# Altium footprint library Footprints.PcbLib: 33 footprints (part 2 of 3)
Each footprint in its own frame and in the unit in brackets; x right, y up, seen from the top. Pads: shape width x height; smd on the part's side, far side on the other; paste and mask are expansions set on the pad; w line width, h text height; cw(c..) or ccw(c..) is an arc to the next point about the centre after c.
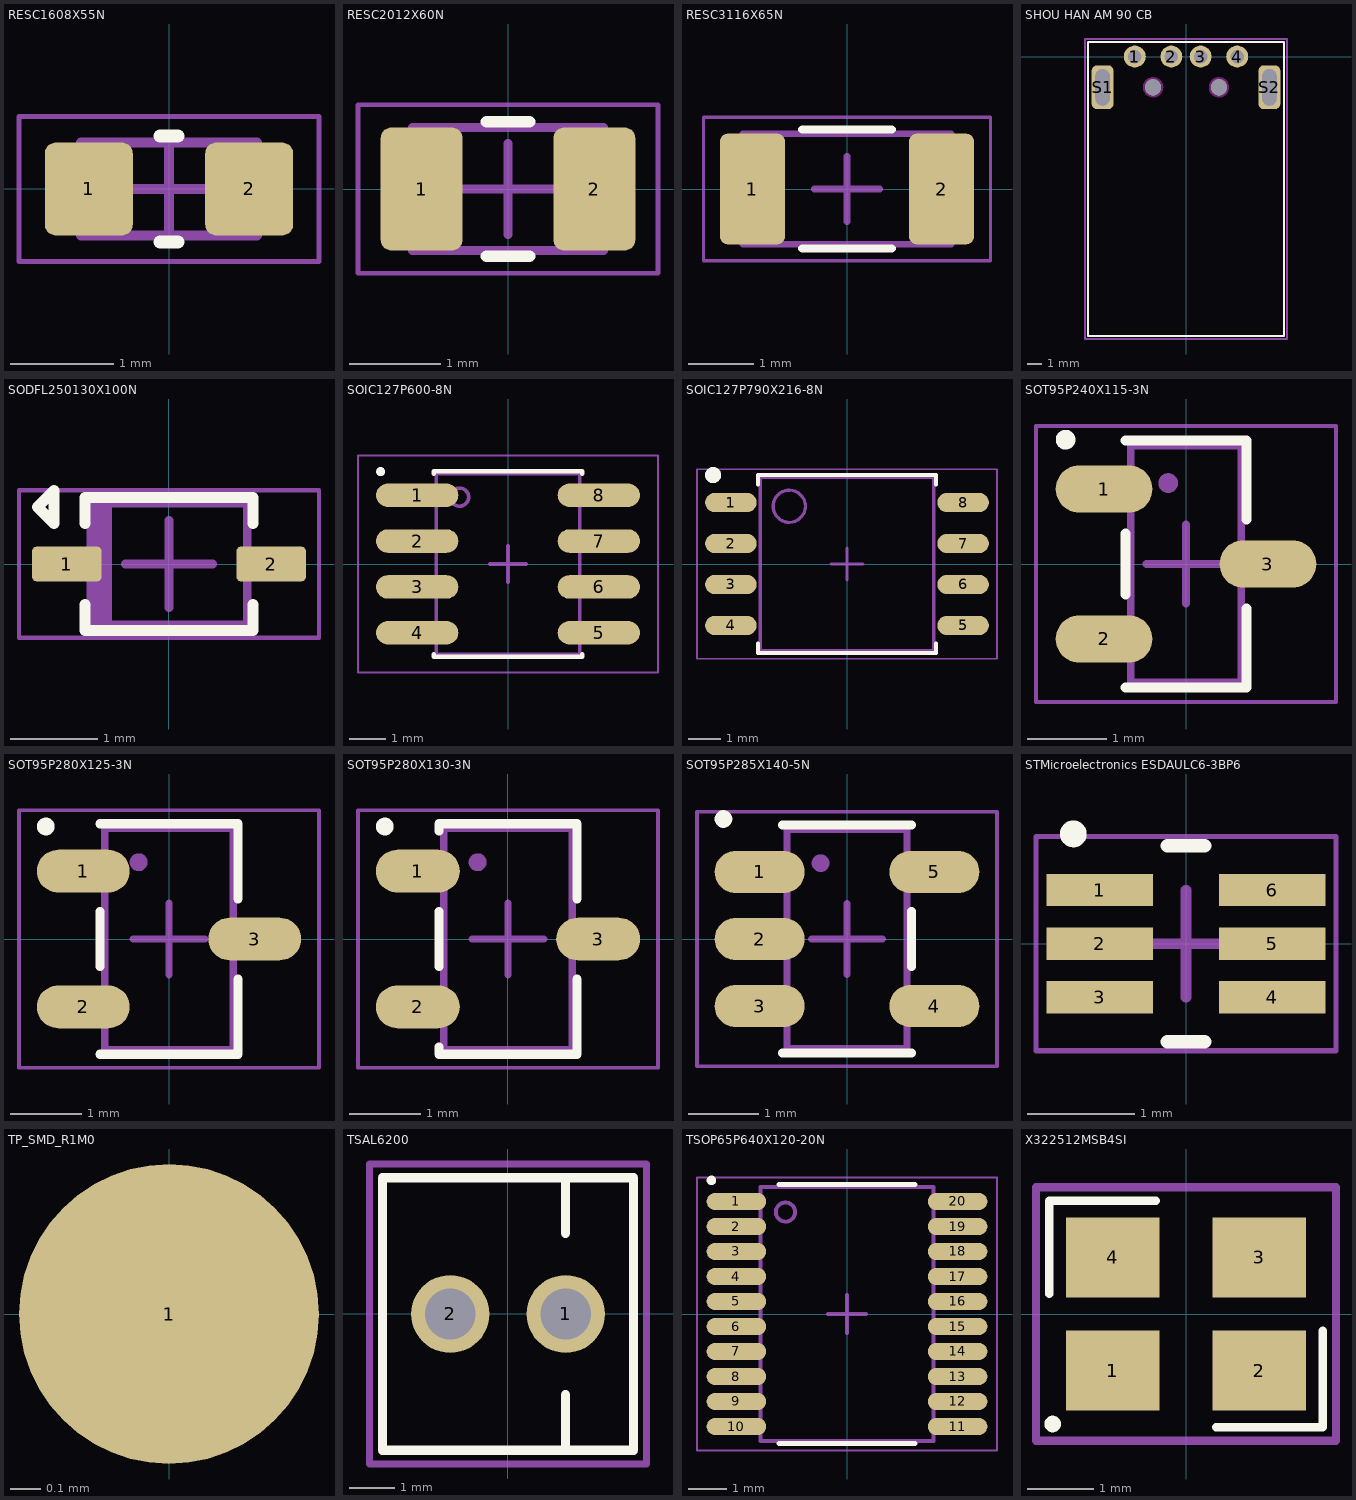
[diagram p1: the footprints below, top view; thin cyan lines are the x and y axes]

## RESC1608X55N [mm] "Chip Resistor, 2-Leads, Body 1.60x0.80mm, IPC Medium Density"
height 0.55
pads (2):
  rrect25% 0.85x0.9 smd: 1(-0.775,0) 2(0.775,0)
Top Overlay:
  lines w0.127: -0.086,-0.514 0.086,-0.514 ; -0.086,0.513 0.086,0.513
Top Assembly:
  lines w0.1: -0.85,-0.45 0.85,-0.45 0.85,0.45 -0.85,0.45 -0.85,-0.45
Top Designator:
  text ".Designator" at 0,0.188 h1
Top Courtyard:
  lines w0.05: -1.45,-0.7 1.45,-0.7 1.45,0.7 -1.45,0.7 -1.45,-0.7
Top Component Center:
  lines w0.1: -0.45,0 0.45,0 ; 0,-0.45 0,0.45
3D body: height 0.55, standoff 0, extent 0.5,-0.4 0.8,0.4
3D body: height 0.55, standoff 0, extent -0.8,-0.4 -0.5,0.4
3D body: height 0.55, standoff 0, extent -0.5,-0.4 0.5,0.4

## RESC2012X60N [mm] "Chip Resistor, 2-Leads, Body 2.00x1.25mm, IPC Medium Density"
height 0.6
pads (2):
  rrect25% 0.9x1.35 smd: 1(-0.95,0) 2(0.95,0)
Top Overlay:
  lines w0.127: -0.236,-0.738 0.236,-0.738 ; -0.236,0.738 0.236,0.738
Top Assembly:
  lines w0.1: -1.05,-0.675 -1.05,0.675 1.05,0.675 1.05,-0.675 -1.05,-0.675
Top Designator:
  text ".Designator" at 0,0.188 h1
Top Courtyard:
  lines w0.05: -1.65,-0.925 -1.65,0.925 1.65,0.925 1.65,-0.925 -1.65,-0.925
Top Component Center:
  lines w0.1: -0.5,0 0.5,0 ; 0,-0.5 0,0.5
3D body: height 0.6, standoff 0, extent -0.65,-0.625 0.65,0.625
3D body: height 0.6, standoff 0, extent -1,-0.625 -0.65,0.625
3D body: height 0.6, standoff 0, extent 0.65,-0.625 1,0.625

## RESC3116X65N [mm] "Chip Resistor, 2-Leads, Body 3.10x1.60mm, IPC Medium Density"
height 0.65
pads (2):
  rrect25% 1x1.7 smd: 1(-1.45,0) 2(1.45,0)
Top Overlay:
  lines w0.127: -0.686,-0.913 0.687,-0.913 ; -0.686,0.914 0.687,0.914
Top Assembly:
  lines w0.1: -1.6,-0.85 -1.6,0.85 1.6,0.85 1.6,-0.85 -1.6,-0.85
Top Designator:
  text ".Designator" at 0,0.188 h1
Top Courtyard:
  lines w0.05: -2.2,-1.1 -2.2,1.1 2.2,1.1 2.2,-1.1 -2.2,-1.1
Top Component Center:
  lines w0.1: -0.5,0 0.5,0 ; 0,-0.5 0,0.5
3D body: height 0.65, standoff 0, extent -1.1,-0.8 1.1,0.8
3D body: height 0.65, standoff 0, extent -1.55,-0.8 -1.1,0.8
3D body: height 0.65, standoff 0, extent 1.1,-0.8 1.55,0.8

## SHOU HAN AM 90 CB [mm]
pads (8):
  round 1.5 hole 0.92: 1(-3.5,0) 2(-1,0) 3(1,0) 4(3.5,0)
  rrect50% 1.5x3 hole 1 slot 2.5 at 90 deg: S1(-5.7,-2.1) S2(5.7,-2.1)
  round 1.1 hole 1.1 unplated: ""(-2.25,-2.1) ""(2.25,-2.1)
Top Overlay:
  lines w0.15: -6.7,-19.1 -6.7,1 6.7,1 6.7,-19.1 -6.7,-19.1
Keep-Out Layer:
  circle w0.254: c-2.25,-2.1 r0.57
  circle w0.254: c2.25,-2.1 r0.57
Top Designator:
  text ".Designator" at 0,0 h1.52
Top Courtyard:
  lines w0.15: -6.9,-19.3 6.9,-19.3 6.9,1.2 -6.9,1.2 -6.9,-19.3

## SODFL250130X100N [mm] "SODFL, 2-Leads, Body 1.70x1.30mm, IPC Medium Density"
height 1
pads (2):
  rrect25% 0.8x0.4 smd: 1(-1.175,0) 2(1.175,0)
Top Overlay:
  lines w0.127: -0.963,-0.463 -0.963,-0.764 0.964,-0.764 0.964,-0.463 ; -0.963,0.463 -0.963,0.764 0.964,0.764 0.964,0.463 ; -1.511,0.653 -1.321,0.844 -1.321,0.463 -1.511,0.653
Top Assembly:
  rectangle: -0.9,-0.7 -0.658,0.7
  lines w0.1: -0.9,-0.7 -0.9,0.7 0.9,0.7 0.9,-0.7 -0.9,-0.7
Top Designator:
  text ".Designator" at 0,0.188 h1
Top Courtyard:
  lines w0.05: -1.725,-0.85 -1.725,0.85 1.725,0.85 1.725,-0.85 -1.725,-0.85
Top Component Center:
  lines w0.1: -0.5,0 0.5,0 ; 0,-0.5 0,0.5
3D body: height 1, standoff 0, extent -0.85,-0.65 0.85,0.65

## SOIC127P600-8N [mm]
height 1.75
pads (8):
  oval 2.275x0.65 smd: 1(-2.512,1.905) 2(-2.512,0.635) 3(-2.512,-0.635) 4(-2.512,-1.905) 5(2.512,-1.905) 6(2.512,-0.635) 7(2.512,0.635) 8(2.512,1.905)
Top Overlay:
  circle w0.125: c-3.525,2.555 r0.062
  lines w0.127: -2.053,-2.494 -2.053,-2.564 2.054,-2.564 2.054,-2.494 ; -2.053,2.494 -2.053,2.564 2.054,2.564 2.054,2.494
Top Assembly:
  circle w0.1: c-1.34,1.85 r0.25
  lines w0.1: -1.99,-2.5 1.99,-2.5 1.99,2.5 -1.99,2.5 -1.99,-2.5
Top Designator:
  text ".Designator" at 0,0.188 h1
Top Courtyard:
  lines w0.05: -4.15,-3 4.15,-3 4.15,3 -4.15,3 -4.15,-3
Top Component Center:
  lines w0.1: -0.5,0 0.5,0 ; 0,-0.5 0,0.5
3D body: height 1.75, standoff 0.3, extent -1.947,-2.452 1.948,2.452

## SOIC127P790X216-8N [mm] "SOIC, 8-Leads, Body 5.28x5.28mm, Pitch 1.27mm, IPC Medium Density"
height 2.16
pads (8):
  oval 1.6x0.6 smd: 1(-3.6,1.905) 2(-3.6,0.635) 3(-3.6,-0.635) 4(-3.6,-1.905) 5(3.6,-1.905) 6(3.6,-0.635) 7(3.6,0.635) 8(3.6,1.905)
Top Overlay:
  circle w0.25: c-4.15,2.755 r0.125
  lines w0.127: -2.753,-2.468 -2.753,-2.753 2.753,-2.753 2.753,-2.468 ; -2.753,2.468 -2.753,2.753 2.753,2.753 2.753,2.468
Top Assembly:
  circle w0.1: c-1.79,1.79 r0.5
  lines w0.1: -2.69,-2.69 2.69,-2.69 2.69,2.69 -2.69,2.69 -2.69,-2.69
Top Designator:
  text ".Designator" at 0,0.188 h1
Top Courtyard:
  lines w0.05: -4.65,-2.94 4.65,-2.94 4.65,2.94 -4.65,2.94 -4.65,-2.94
Top Component Center:
  lines w0.1: -0.5,0 0.5,0 ; 0,-0.5 0,0.5
3D body: height 2.16, standoff 0.05, extent -2.64,-2.64 2.64,2.64

## SOT95P240X115-3N [mm] "SOT23, 3-Leads, Body 2.90x2.40mm, Pitch 0.95mm, IPC Medium Density"
height 1.15
pads (3):
  oval 1.225x0.6 smd: 1(-1.038,0.95) 2(-1.038,-0.95) 3(1.037,0)
Top Overlay:
  circle w0.125: c-1.525,1.575 r0.062
  lines w0.127: -0.764,-1.563 0.763,-1.563 0.763,-0.564 ; -0.764,-0.386 -0.764,0.386 ; -0.764,1.563 0.763,1.563 0.763,0.564
Top Assembly:
  circle w0.125: c-0.225,1.025 r0.062
  lines w0.1: -0.7,-1.5 0.7,-1.5 0.7,1.5 -0.7,1.5 -0.7,-1.5
Top Designator:
  text ".Designator" at 0,0.188 h1
Top Courtyard:
  lines w0.05: -1.9,-1.75 1.9,-1.75 1.9,1.75 -1.9,1.75 -1.9,-1.75
Top Component Center:
  lines w0.1: -0.5,0 0.5,0 ; 0,-0.5 0,0.5
3D body: height 1.15, standoff 0, extent -0.65,-1.45 0.65,1.45

## SOT95P280X125-3N [mm] "SOT23, 3-Leads, Body 2.95x2.80mm, Pitch 0.95mm, IPC Medium Density"
height 1.25
pads (3):
  oval 1.3x0.6 smd: 1(-1.2,0.95) 2(-1.2,-0.95) 3(1.2,0)
Top Overlay:
  circle w0.125: c-1.725,1.575 r0.062
  lines w0.127: -0.964,-1.613 0.964,-1.613 0.964,-0.564 ; -0.964,-0.386 -0.964,0.386 ; -0.964,1.613 0.964,1.613 0.964,0.564
Top Assembly:
  circle w0.125: c-0.425,1.075 r0.062
  lines w0.1: -0.9,-1.55 0.9,-1.55 0.9,1.55 -0.9,1.55 -0.9,-1.55
Top Designator:
  text ".Designator" at 0,0.188 h1
Top Courtyard:
  lines w0.05: -2.1,-1.8 2.1,-1.8 2.1,1.8 -2.1,1.8 -2.1,-1.8
Top Component Center:
  lines w0.1: -0.5,0 0.5,0 ; 0,-0.5 0,0.5
3D body: height 1.25, standoff 0, extent -0.8,-1.475 0.8,1.475

## SOT95P280X130-3N [mm] "SOT23, 3-Leads, Body 2.90x2.80mm, Pitch 0.95mm, IPC Medium Density"
height 1.3
pads (3):
  oval 1.175x0.6 smd: 1(-1.262,0.95) 2(-1.262,-0.95) 3(1.262,0)
Top Overlay:
  circle w0.125: c-1.725,1.575 r0.062
  lines w0.127: -0.963,-1.513 -0.963,-1.613 0.964,-1.613 0.964,-0.563 ; -0.963,-0.387 -0.963,0.387 ; -0.963,1.513 -0.963,1.613 0.964,1.613 0.964,0.563
Top Assembly:
  circle w0.125: c-0.425,1.075 r0.062
  lines w0.1: -0.9,-1.55 -0.9,1.55 0.9,1.55 0.9,-1.55 -0.9,-1.55
Top Designator:
  text ".Designator" at 0,0.188 h1
Top Courtyard:
  lines w0.05: -2.1,-1.8 -2.1,1.8 2.1,1.8 2.1,-1.8 -2.1,-1.8
Top Component Center:
  lines w0.1: -0.5,0 0.5,0 ; 0,-0.5 0,0.5
3D body: height 1.3, standoff 0.1, extent -0.825,-1.45 0.825,1.45

## SOT95P285X140-5N [mm] "SOT23, 5-Leads, Body 3.00x2.85mm, Pitch 0.95mm, IPC Medium Density"
height 1.4
pads (5):
  oval 1.275x0.6 smd: 1(-1.238,0.95) 2(-1.238,0) 3(-1.238,-0.95) 4(1.237,-0.95) 5(1.237,0.95)
Top Overlay:
  circle w0.125: c-1.75,1.7 r0.062
  lines w0.127: -0.914,-1.613 0.913,-1.613 ; -0.914,1.613 0.913,1.613 ; 0.913,-0.386 0.913,0.386
Top Assembly:
  circle w0.125: c-0.375,1.075 r0.062
  lines w0.1: -0.85,-1.55 -0.85,1.55 0.85,1.55 0.85,-1.55 -0.85,-1.55
Top Designator:
  text ".Designator" at 0,0.188 h1
Top Courtyard:
  lines w0.05: -2.125,-1.8 -2.125,1.8 2.125,1.8 2.125,-1.8 -2.125,-1.8
Top Component Center:
  lines w0.1: -0.5,0 0.5,0 ; 0,-0.5 0,0.5
3D body: height 1.4, standoff 0.1, extent -0.8,-1.5 0.8,1.5

## STMicroelectronics ESDAULC6-3BP6 [mm] "SOTFL, 6-Leads, Body 1.60x1.60mm, Pitch 0.50mm, IPC Medium Density"
height 0.6
pads (6):
  rect 0.99x0.3 smd: 1(-0.805,0.5) 2(-0.805,0) 3(-0.805,-0.5) 4(0.805,-0.5) 5(0.805,0) 6(0.805,0.5)
Top Overlay:
  circle w0.125: c-1.052,1.025 r0.062
  lines w0.127: -0.173,-0.914 0.173,-0.914 ; -0.173,0.913 0.173,0.913
Top Designator:
  text ".Designator" at 0,0.188 h1
Top Courtyard:
  lines w0.05: -1.4,-1 1.4,-1 1.4,1 -1.4,1 -1.4,-1
Top Component Center:
  lines w0.1: -0.5,0 0.5,0 ; 0,-0.5 0,0.5

## TP_SMD_R1M0 [mm]
pads (1):
  round 1 smd mask+0.1: 1(0,0)

## TSAL6200 [mm]
pads (2):
  round 1.72 hole 1.12: 1(1.27,0) 2(-1.27,0)
Top Overlay:
  lines w0.2: 1.27,-2.921 1.27,-1.778 ; 1.27,1.778 1.27,2.921 ; -2.765,-3 -2.765,3 2.765,3 2.765,0 2.765,-3 -2.765,-3
Top Designator:
  text ".Designator" at 0,0 h1.52
Top Courtyard:
  lines w0.15: -3.048,-3.302 3.048,-3.302 3.048,3.302 -3.048,3.302 -3.048,-3.302
3D body "TSAL6200.stp": height 27.91, standoff -6.4, extent -2.821,-2.9 2.567,2.896

## TSOP65P640X120-20N [mm] "TSOP, 20-Leads, Body 6.50x4.40mm, Pitch 0.65mm, IPC Medium Density"
height 1.2
pads (20):
  oval 1.55x0.45 smd: 1(-2.875,2.925) 2(-2.875,2.275) 3(-2.875,1.625) 4(-2.875,0.975) 5(-2.875,0.325) 6(-2.875,-0.325) 7(-2.875,-0.975) 8(-2.875,-1.625) 9(-2.875,-2.275) 10(-2.875,-2.925) 11(2.875,-2.925) 12(2.875,-2.275) 13(2.875,-1.625) 14(2.875,-0.975) 15(2.875,-0.325) 16(2.875,0.325) 17(2.875,0.975) 18(2.875,1.625) 19(2.875,2.275) 20(2.875,2.925)
Top Overlay:
  circle w0.125: c-3.525,3.475 r0.062
  lines w0.127: -1.773,-3.363 1.773,-3.363 ; -1.773,3.364 1.773,3.364
Top Assembly:
  circle w0.1: c-1.6,2.65 r0.25
  lines w0.1: -2.25,-3.3 -2.25,3.3 2.25,3.3 2.25,-3.3 -2.25,-3.3
Top Designator:
  text ".Designator" at 0,0.188 h1
Top Courtyard:
  lines w0.05: -3.9,-3.55 -3.9,3.55 3.9,3.55 3.9,-3.55 -3.9,-3.55
Top Component Center:
  lines w0.1: -0.5,0 0.5,0 ; 0,-0.5 0,0.5
3D body: height 1.2, standoff 0.15, extent -2.2,-3.25 2.2,3.25

## X322512MSB4SI [mm]
pads (4):
  rect 1.4x1.2 smd: 1(-1.1,-0.85) 2(1.1,-0.85) 3(1.1,0.85) 4(-1.1,0.85)
Top Overlay:
  circle w0.125: c-2,-1.65 r0.062
  lines w0.127: -2.05,0.3 -2.05,1.7 -0.45,1.7 ; 0.45,-1.7 2.05,-1.7 2.05,-0.25
Top Designator:
  text ".Designator" at 0,0 h1.52
Top Courtyard:
  lines w0.127: -2.25,-1.9 -2.25,1.9 2.25,1.9 2.25,-1.9 -2.25,-1.9